# Altium footprint library 7S_WR.PcbLib: 75 footprints (part 2 of 5)
Each footprint in its own frame and in the unit in brackets; x right, y up, seen from the top. Pads: shape width x height; smd on the part's side, far side on the other; paste and mask are expansions set on the pad; w line width, h text height; cw(c..) or ccw(c..) is an arc to the next point about the centre after c.
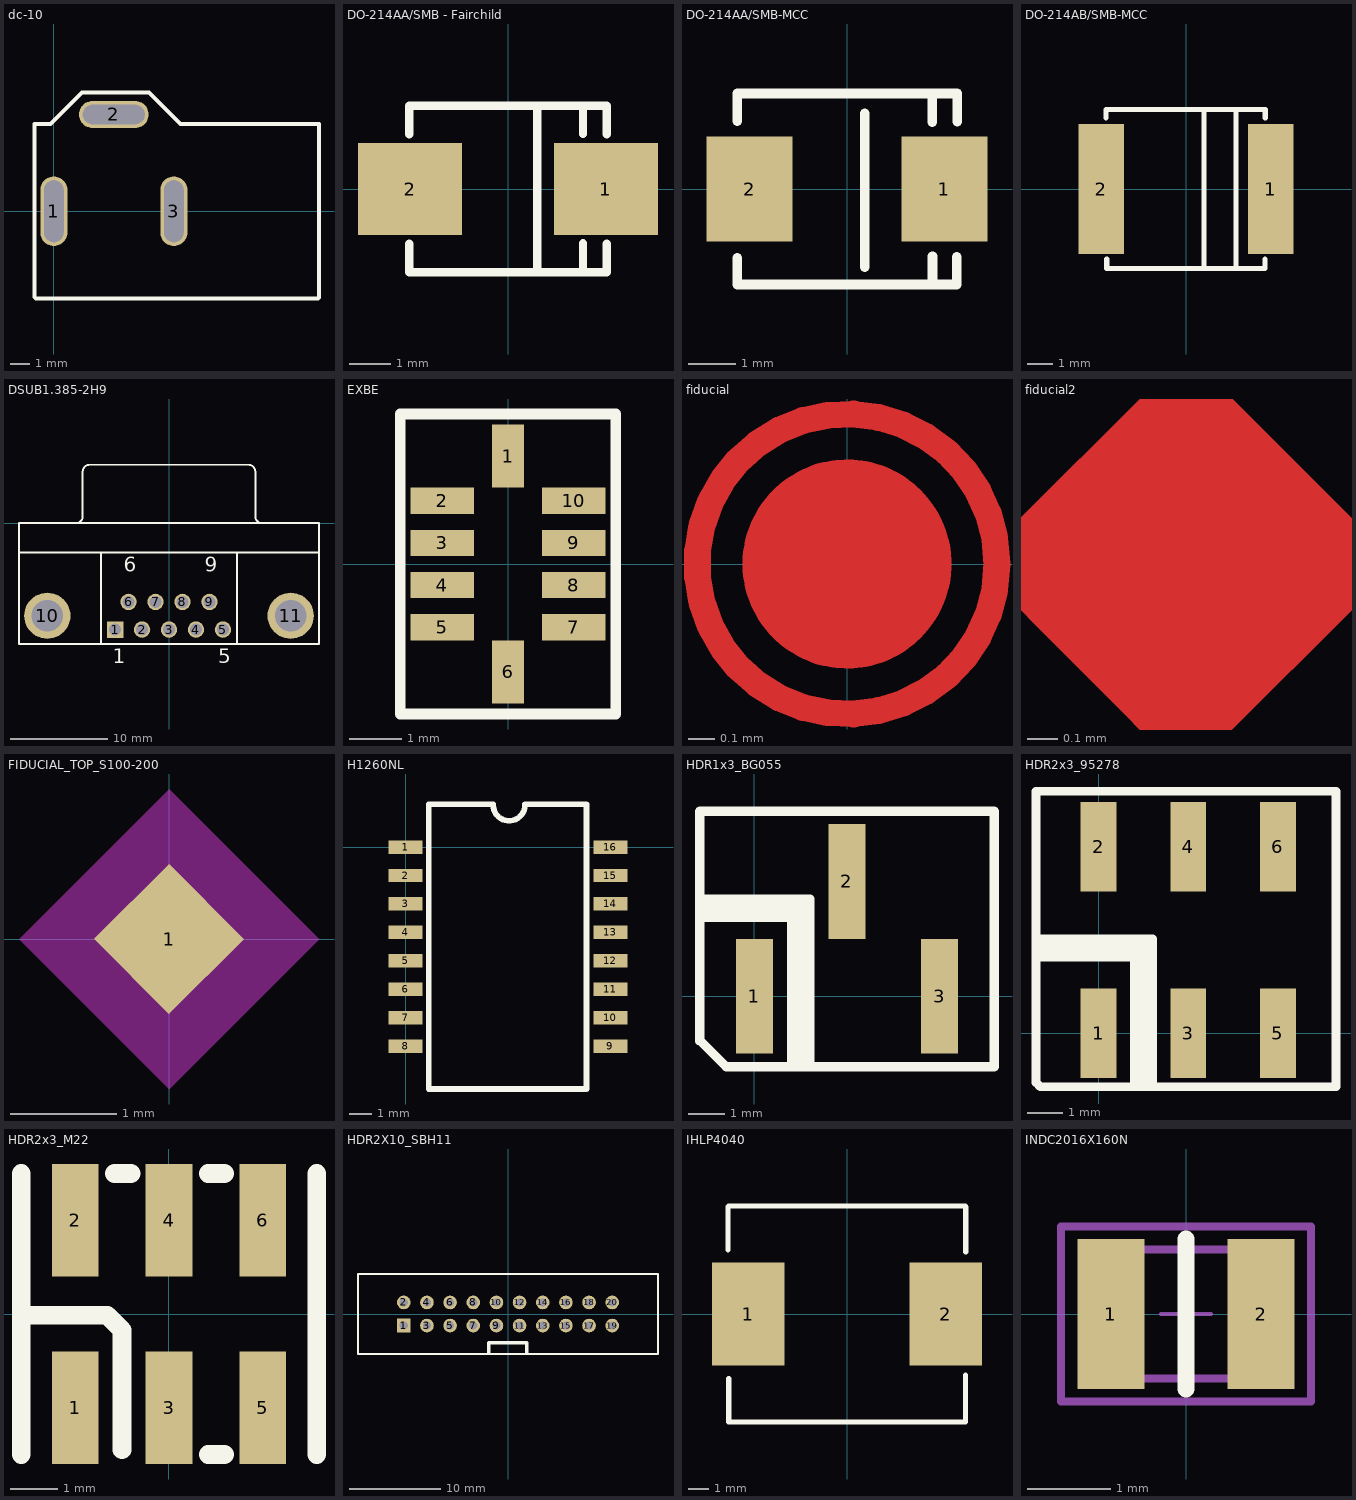
[diagram p1: the footprints below, top view; thin cyan lines are the x and y axes]

## dc-10 [mm] "DC-10 PCB mounting  pin / ring type with  switch. Rated 12V /  5A. DC10A with  2.1mm dia. pin.  DC10B with 2.5mm  dia. pin"
pads (3):
  rrect100% 1.4x3.6 hole 1 slot 3.2 at 90 deg: 1(0,0) 3(6.2,0)
  rrect100% 3.6x1.4 hole 1 slot 3.2 at 0 deg: 2(3.1,5)
Top Overlay:
  lines w0.2: -1,-4.43 -1,4.5 -0.18,4.5 0.653,5.332 1.45,6.13 4.915,6.13 6.545,4.5 13.7,4.5 13.7,-4.455 13.655,-4.5 -0.93,-4.5 -1,-4.43

## DO-214AA/SMB - Fairchild [mm] "Diode footprint"
height 3
pads (2):
  rect 2.5x2.2 smd: 1(2.35,0) 2(-2.35,0)
Top Overlay:
  lines w0.203: -2.375,-1.315 -2.375,-2 2.375,-2 2.375,-1.31 ; -2.375,1.31 -2.375,2 2.375,2 2.375,1.31 ; 0.7,-1.99 0.7,2 ; 1.8,-1.965 1.8,-1.3 ; 1.8,1.32 1.8,2

## DO-214AA/SMB-MCC [mm] "DO-214AA/SMB Diode footprint for S2M MCC"
height 2.95
pads (2):
  rect 1.8x2.2 smd: 1(2.04,0) 2(-2.04,0)
Top Overlay:
  lines w0.203: -2.3,-1.44 -2.3,-2 2.3,-2 2.3,-1.425 ; -2.3,1.42 -2.3,1.985 ; -2.3,2 2.3,2 ; 0.37,-1.633 0.37,1.58 ; 1.785,1.4 1.785,2 ; 1.79,-1.96 1.79,-1.405 ; 2.305,1.415 2.305,2

## DO-214AB/SMB-MCC [mm] "Diode footprint"
height 3
pads (2):
  rect 1.78x5.08 smd: 1(3.302,0) 2(-3.302,0)
Top Overlay:
  lines w0.203: -3.12,2.76 -3.12,3.1 ; -3.09,-2.74 -3.09,-3.1 3.075,-3.1 3.075,-2.74 ; -3.09,3.1 3.09,3.1 3.09,2.76 ; 0.7,-3.1 0.7,3.1 ; 1.95,-2.74 1.95,-3.1 1.95,3.075

## DSUB1.385-2H9 [mm] "Connector; D Subminiature; 9 Position; Right Angle; Pitch 1.385 mm"
height 12.75
pads (11):
  rect 1.69x1.69 hole 1.2: 1(-5.54,-10.92)
  round 1.69 hole 1.2: 2(-2.77,-10.92) 3(0,-10.92) 4(2.77,-10.92) 5(5.54,-10.92) 6(-4.155,-8.08) 7(-1.385,-8.08) 8(1.385,-8.08) 9(4.155,-8.08)
  round 4.76 hole 3.26: 10(-12.495,-9.5) 11(12.495,-9.5)
Top Overlay:
  lines w0.2: -15.4,-3 15.4,-3 ; -9.56,0.005 ccw(c-9.56,0.7) -8.865,0.7 -8.865,5.3 ; -8.86,5.305 cw(c-8.165,5.305) -8.165,6 8.165,6 cw(c8.165,5.305) 8.86,5.305 ; -7,-12.4 -7,-3 ; 7,-12.4 7,-3 ; 8.865,5.3 8.865,0.7 ccw(c9.56,0.7) 9.56,0.005 ; -15.4,-12.4 -15.4,0 15.4,0 15.4,-12.4 -15.4,-12.4
  text "1" at -5.79,-14.375 h1.5
  text "6" at -4.655,-4.975 h1.5
  text "9" at 3.655,-4.975 h1.5
  text "5" at 5.04,-14.375 h1.5

## EXBE [mm] "Resistor Array"
pads (10):
  rect 0.6x1.2 smd: 1(0,2.05) 6(0,-2.05)
  rect 1.2x0.5 smd: 2(-1.25,1.2) 3(-1.25,0.4) 4(-1.25,-0.4) 5(-1.25,-1.2) 7(1.25,-1.2) 8(1.25,-0.4) 9(1.25,0.4) 10(1.25,1.2)
Top Overlay:
  lines w0.2: -2.05,-2.85 -2.05,1.2 -2.05,2.85 2.05,2.85 2.05,-2.85 -2.05,-2.85

## fiducial [mm]
Top Layer:
  circle w0.4: c0,0 r0.19
  circle w0.1: c0,0 r0.56

## fiducial2 [mm]
Top Layer:
  region: 0,-0.707 0.707,0 0,0.707 -0.707,0

## FIDUCIAL_TOP_S100-200 [mm] "Scare Fiducial Target, Top Layer, 1.0mm, Top Sloder 2.0mm, Keepout =2.0mm"
pads (1):
  rect 1x1 smd rot 45 paste-0.51 mask+0.5: 1(0,0)
Top Layer keep-out:
  region: 1.414,0 0,-1.414 -1.414,0 0,1.414

## H1260NL [mm]
pads (16):
  rect 1.525x0.6 smd: 1(0,0) 2(0,-1.27) 3(0,-2.54) 4(0,-3.81) 5(0,-5.08) 6(0,-6.35) 7(0,-7.62) 8(0,-8.89) 9(9.145,-8.89) 10(9.145,-7.62) 11(9.145,-6.35) 12(9.145,-5.08) 13(9.145,-3.81) 14(9.145,-2.54) 15(9.145,-1.27) 16(9.145,0)
Top Overlay:
  lines w0.254: 3.912,1.88 ccw(c4.622,1.88) 5.332,1.88 ; 3.912,1.905 1.041,1.905 1.041,-10.795 8.077,-10.795 8.077,1.905 5.334,1.905

## HDR1x3_BG055 [mm] "SMD 3 Positions Single Row Header, 2.54mm pitch"
pads (3):
  rect 1.02x3.15 smd: 1(0,0) 2(2.54,3.15) 3(5.08,0)
Top Overlay:
  lines w0.254: -1.5,-1.225 -1.5,5.075 ; -1.485,-1.225 -0.775,-1.935 1.016,-1.935 ; -1.485,5.075 6.58,5.075 6.58,-1.935 1.016,-1.935 ; -1.45,2.667 1.524,2.667 1.524,-1.83 ; -1.44,2.413 1.27,2.413 1.27,1.778 1.27,-1.83 ; -1.415,2.159 1.016,2.159 1.016,-1.935 ; 0.889,2.413 1.016,2.413 1.27,2.159 ; 1.016,2.667 1.27,2.667 1.524,2.413

## HDR2x3_95278 [mm] "SMD 6 Positions Header, 2.54mm pitch"
pads (6):
  rect 1.02x2.54 smd: 1(0,0) 2(0,5.28) 3(2.54,0) 4(2.54,5.28) 5(5.08,0) 6(5.08,5.28)
Top Overlay:
  lines w0.254: -1.778,2.159 1.016,2.159 1.016,-1.524 ; -1.778,2.413 1.27,2.413 1.27,1.778 1.27,-1.524 ; -1.778,2.667 1.524,2.667 1.524,-1.524 ; -0.762,6.858 -0.127,6.858 ; 0.127,6.858 -1.778,6.858 ; 0.889,2.413 1.016,2.413 1.27,2.159 ; 1.016,2.667 1.27,2.667 1.524,2.413 ; -1.778,6.858 -0.508,6.858 6.731,6.858 6.731,-1.524 1.016,-1.524 ; -1.778,6.858 -1.778,-1.397 -1.651,-1.524 1.016,-1.524

## HDR2x3_M22 [mm] "SMD 6 Positions Header, 2 mm pitch"
pads (6):
  rect 1x2.4 smd: 1(-2,-2) 2(-2,2) 3(0,-2) 4(0,2) 5(2,-2) 6(2,2)
Top Overlay:
  lines w0.4: -3.15,-3 -3.15,3 ; -3.11,-0.025 -1.32,-0.025 -1,-0.345 -1,-2.895 ; -1.16,3 -0.81,3 ; 0.835,-3 1.185,-3 ; 0.835,3 1.185,3 ; 3.15,-3 3.15,3

## HDR2X10_SBH11 [mm] "Connector; Header; 10x2 Position 2.54mm"
height 8.8
pads (20):
  rect 1.5x1.5 hole 0.9: 1(-11.43,-1.27)
  round 1.5 hole 0.9: 2(-11.43,1.27) 3(-8.89,-1.27) 4(-8.89,1.27) 5(-6.35,-1.27) 6(-6.35,1.27) 7(-3.81,-1.27) 8(-3.81,1.27) 9(-1.27,-1.27) 10(-1.27,1.27) 11(1.27,-1.27) 12(1.27,1.27) 13(3.81,-1.27) 14(3.81,1.27) 15(6.35,-1.27) 16(6.35,1.27) 17(8.89,-1.27) 18(8.89,1.27) 19(11.43,-1.27) 20(11.43,1.27)
Top Overlay:
  lines w0.2: -16.45,-4.4 16.45,-4.4 16.45,4.4 -16.45,4.4 -16.45,-4.4
  lines w0.4: -2.125,-4.255 -2.125,-3.165 2.07,-3.165 2.07,-4.26

## IHLP4040 [mm] "Chip Inductor; Body 10.92mm x 10.3 mm (LxW typ)"
height 4
pads (2):
  rect 3.5x4.95 smd: 1(-4.75,0) 2(4.75,0)
Top Overlay:
  lines w0.254: -5.73,3.08 -5.73,5.175 ; -5.7,-5.2 5.7,-5.2 ; -5.7,5.2 5.7,5.2 ; -5.695,-5.185 -5.695,-3.12 ; 5.705,-5.185 5.705,-2.95 ; 5.72,2.995 5.72,5.14

## INDC2016X160N [mm] "Chip Inductor, EIA 0805, Metric 2016, Body 2.0x1.6mm, IPC Medium Density"
height 1.6
pads (2):
  rect 0.8x1.8 smd: 1(-0.9,0) 2(0.9,0)
Top Overlay:
  lines w0.2: 0,-0.9 0,0.9
Mechanical 13:
  lines w0.1: -1.125,-0.775 -1.125,0.775 1.125,0.775 1.125,-0.775 -1.125,-0.775
Mechanical 14:
  lines w0.1: -1.5,-1.05 -1.5,1.05 1.5,1.05 1.5,-1.05 -1.5,-1.05
Mechanical 15:
  lines w0.05: -0.3,0 0.3,0 ; 0,-0.3 0,0.3 ; -1.125,-0.775 -1.125,0.775 1.125,0.775 1.125,-0.775 -1.125,-0.775
3D body: height 1.45, standoff 0, extent -0.995,-0.662 1.205,0.738